# EAGLE library part MICROSD (library bschulz)
Micro-SD / Transflash card holder with SPI pinout For the 3M # 2908-05WB-MG and/or 4UCON #19656 push-push type
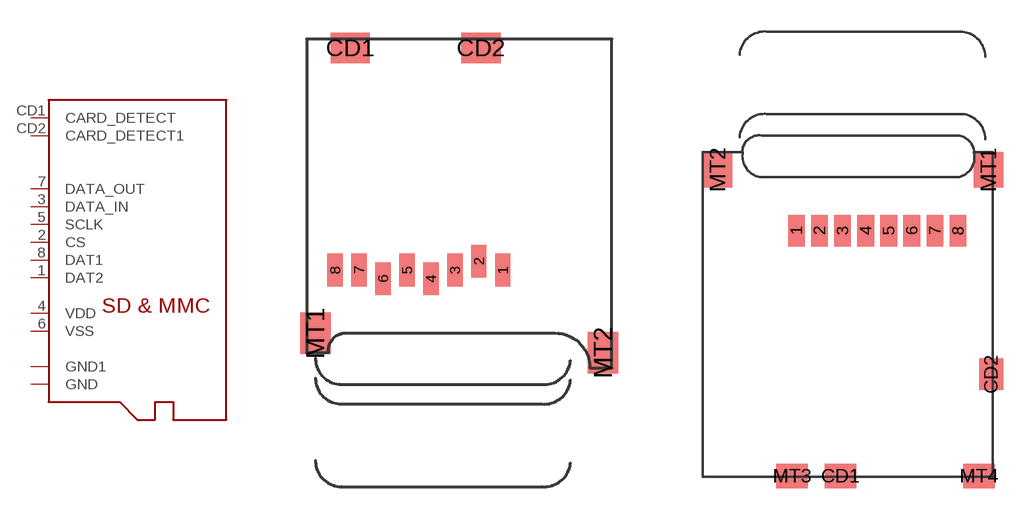
[diagram p20: symbol with the pads of MICROSD; footprints MICROSD, MICROSD_CD]

Designator prefix SD

## MICROSD (DIGIKEY: 3M5607CT-ND; MF: 3M; MPN: 2908-05WB-MG)  [MICROSD]
1  DAT2
2  CS  in
3  DATA_IN  in
4  VDD  sup
5  SCLK  in
6  VSS  sup
7  DATA_OUT  out
8  DAT1
CD1  CARD_DETECT  pas
CD2  CARD_DETECT1  pas
MT1  GND  sup
MT2  GND1  sup

## MICROSDCD (DIGIKEY: WM19093CT-ND; MF: Molex; MPN: 5025700893)  [MICROSD_CD]
1  DAT2
2  CS  in
3  DATA_IN  in
4  VDD  sup
5  SCLK  in
6  VSS  sup
7  DATA_OUT  out
8  DAT1
CD1  CARD_DETECT  pas
CD2  CARD_DETECT1  pas
MT1  GND  sup
MT2  GND1  sup
MT3  GND1  sup
MT4  GND1  sup

## MICROSDHINDGED (DIGIKEY: HR1972CT-ND; MF: Hirose; MPN: DM3CS-SF)  [MICROSD_HIROSE_HINDGED]
1  DAT2
2  CS  in
3  DATA_IN  in
4  VDD  sup
5  SCLK  in
6  VSS  sup
7  DATA_OUT  out
8  DAT1
CD  CARD_DETECT  pas
MT1  GND  sup
MT2  GND1  sup
MT3  CARD_DETECT1  pas
MT4  GND1  sup

## MICROSDMOLEX_503182 (DIGIKEY: WM12834CT-ND; MF: Molex; MPN: 5031821852)  [MICROSD_MOLEX_5031821852]
1  DAT2
2  CS  in
3  DATA_IN  in
4  VDD  sup
5  SCLK  in
6  VSS  sup
7  DATA_OUT  out
8  DAT1
BODY@1  GND1  sup
BODY@2  GND1  sup
BODY@3  GND  sup
BODY@4  GND  sup
BODY@5  GND1  sup
SW1  CARD_DETECT1  pas
SW2  CARD_DETECT  pas

## Footprint MICROSD (pad centres in mm)
smd 0.7 x 1.5: 1 9,-10.64; 2 7.9,-10.24; 3 6.8,-10.64; 4 5.7,-11.04; 5 4.6,-10.64; 6 3.5,-11.04; 7 2.4,-10.64; 8 1.3,-10.64
smd 1.8 x 1.4: CD1 2,-0.44; CD2 8,-0.44
smd 1.4 x 1.9: MT1 0.4,-13.54; MT2 13.6,-14.44

## Footprint MICROSD_CD (pad centres in mm)
Build for a Micro SD card with discrete card dectect switch, built for the Molex 5025700893 socket
smd 0.8 x 1.5: 1 4.45,-3.75; 2 5.55,-3.75; 3 6.65,-3.75; 4 7.75,-3.75; 5 8.85,-3.75; 6 9.95,-3.75; 7 11.05,-3.75; 8 12.15,-3.75
smd 1.5 x 1.15: CD1 6.55,-15.45; MT3 4.25,-15.45; MT4 13.15,-15.45
smd 1.15 x 1.5: CD2 13.725,-10.6
smd 1.4 x 1.7: MT1 13.6,-0.85; MT2 0.7,-0.85

## Footprint MICROSD_HIROSE_HINDGED (pad centres in mm)
smd 0.7 x 2: 1 3.2,0.7; 2 2.1,0.7; 3 1,0.7; 4 -0.1,0.7; 5 -1.2,0.7; 6 -2.3,0.7; 7 -3.4,0.7; 8 -4.5,0.7
smd 2.7 x 1.4: CD 1.8,13.4; MT3 -3.1,13.4
smd 1.5 x 2.6: MT1 6.75,1.2
smd 1.2 x 1.2: MT2 5.08,13.5
smd 1 x 2.6: MT4 -6.6,1.2

## Footprint MICROSD_MOLEX_5031821852 (pad centres in mm)
μSD Card Socket, 10 pos (8 + 2) Molex 5031821852 Datasheet <https://www.molex.com/pdm_docs/sd/5031821852_sd.pdf>
smd 0.8 x 1.24: 1 0,-0.62; 2 1.1,-0.62; 3 2.2,-0.62; 4 3.3,-0.62; 5 4.4,-0.62; 6 5.5,-0.62; 7 6.6,-0.62; 8 7.7,-0.62
smd 0.95 x 2.5: BODY@1 -4.345,-1.24
smd 1.15 x 2.2: BODY@2 -4.305,-12.58; BODY@5 10.045,-1.1
smd 1.5 x 1.15: BODY@3 0,-13.155; BODY@4 7.78,-13.155
smd 1.16 x 1.2: SW1 9.64,-12.25; SW2 9.64,-3.25